# EAGLE library part PCM4202 (library ICs)
High-Performance 24-Bit, 216kHz Sampling Stereo Audio Analog-to-Digital Converter
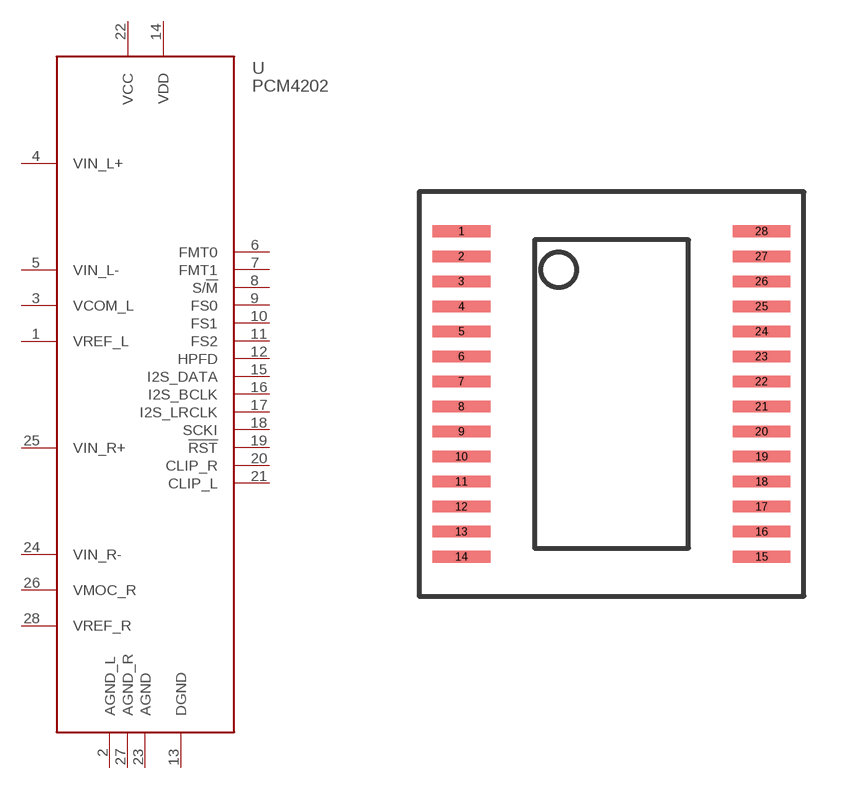
[diagram p258: symbol with the pads of SSOP28; footprint SSOP28]

Designator prefix U

## PCM4202 (DIGIKEY: 296-41379-1-ND; HEIGHT: 2; PRICE_PER: 6.45; VALUE: PCM4202)  [SSOP28]
1  VREF_L
2  AGND_L
3  VCOM_L
4  VIN_L+
5  VIN_L-
6  FMT0
7  FMT1
8  S/!M
9  FS0
10  FS1
11  FS2
12  HPFD
13  DGND
14  VDD
15  I2S_DATA
16  I2S_BCLK
17  I2S_LRCLK
18  SCKI
19  !RST
20  CLIP_R
21  CLIP_L
22  VCC
23  AGND
24  VIN_R-
25  VIN_R+
26  VMOC_R
27  AGND_R
28  VREF_R

## Footprint SSOP28 (pad centres in mm)
smd 1.5 x 0.3: 1 -3.9,4.225; 2 -3.9,3.575; 3 -3.9,2.925; 4 -3.9,2.275; 5 -3.9,1.625; 6 -3.9,0.975; 7 -3.9,0.325; 8 -3.9,-0.325; 9 -3.9,-0.975; 10 -3.9,-1.625; 11 -3.9,-2.275; 12 -3.9,-2.925; 13 -3.9,-3.575; 14 -3.9,-4.225; 15 3.9,-4.225; 16 3.9,-3.575; 17 3.9,-2.925; 18 3.9,-2.275; 19 3.9,-1.625; 20 3.9,-0.975; 21 3.9,-0.325; 22 3.9,0.325; 23 3.9,0.975; 24 3.9,1.625; 25 3.9,2.275; 26 3.9,2.925; 27 3.9,3.575; 28 3.9,4.225